# EAGLE library part MFRC630 (library ICs)
IC CONTACTLESS READER 32HVQFN RFID Reader IC 13.56MHz ISO 14443, MIFARE I²C, SPI, UART 3 V ~ 5.5 V 32-VFQFN Exposed Pad
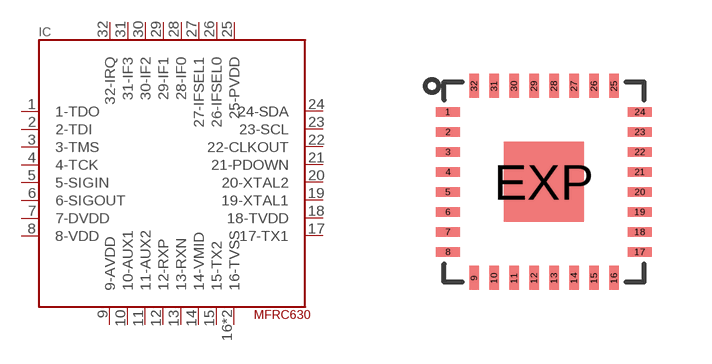
[diagram p8: symbol with the pads of SOT617-1; footprint SOT617-1]

Designator prefix IC

## MFRC630 (MN: NXP; MN_CODE: MFRC630; ORDER: DIGIKEY; ORDER_CODE: MFRC63002HN,118-ND)  [SOT617-1]
1  1-TDO
2  2-TDI
3  3-TMS
4  4-TCK
5  5-SIGIN
6  6-SIGOUT
7  7-DVDD
8  8-VDD
9  9-AVDD
10  10-AUX1
11  11-AUX2
12  12-RXP
13  13-RXN
14  14-VMID
15  15-TX2
16  16-TVSS
17  17-TX1
18  18-TVDD
19  19-XTAL1
20  20-XTAL2
21  21-PDOWN
22  22-CLKOUT
23  23-SCL
24  24-SDA
25  25-PVDD
26  26-IFSEL0
27  27-IFSEL1
28  28-IF0
29  29-IF1
30  30-IF2
31  31-IF3
32  32-IRQ
EXP  16-TVSS

## Footprint SOT617-1 (pad centres in mm)
smd 0.6 x 0.24: 1 -2.4,1.75; 2 -2.4,1.25; 3 -2.4,0.75; 4 -2.4,0.25; 5 -2.4,-0.25; 6 -2.4,-0.75; 7 -2.4,-1.25; 8 -2.4,-1.75; 17 2.4,-1.75; 18 2.4,-1.25; 19 2.4,-0.75; 20 2.4,-0.25; 21 2.4,0.25; 22 2.4,0.75; 23 2.4,1.25; 24 2.4,1.75
smd 0.24 x 0.6: 9 -1.75,-2.4; 10 -1.25,-2.4; 11 -0.75,-2.4; 12 -0.25,-2.4; 13 0.25,-2.4; 14 0.75,-2.4; 15 1.25,-2.4; 16 1.75,-2.4; 25 1.75,2.4; 26 1.25,2.4; 27 0.75,2.4; 28 0.25,2.4; 29 -0.25,2.4; 30 -0.75,2.4; 31 -1.25,2.4; 32 -1.75,2.4
smd 2 x 2: EXP 0,0